# Altium footprint library Display.PcbLib: 1 footprints
Each footprint in its own frame and in the unit in brackets; x right, y up, seen from the top. Pads: shape width x height; smd on the part's side, far side on the other; paste and mask are expansions set on the pad; w line width, h text height; cw(c..) or ccw(c..) is an arc to the next point about the centre after c.
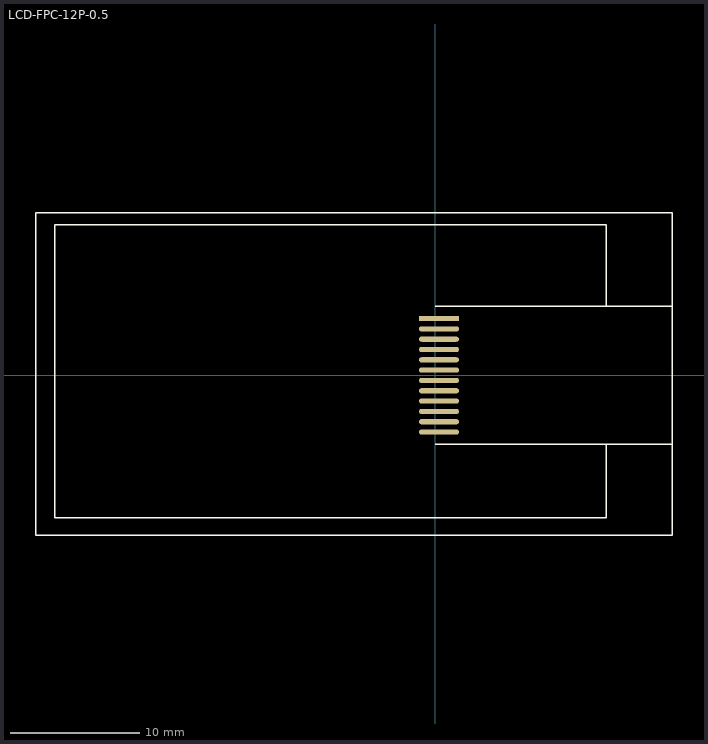
[diagram p0: the footprint, top view; thin cyan lines are the x and y axes]

## LCD-FPC-12P-0.5 [mm]
pads (12):
  rect 3.1x0.4 smd: 1(0.3,4.4)
  oval 3.1x0.4 smd: 2(0.3,3.6) 3(0.3,2.8) 4(0.3,2) 5(0.3,1.2) 6(0.3,0.4) 7(0.3,-0.4) 8(0.3,-1.2) 9(0.3,-2) 10(0.3,-2.8) 11(0.3,-3.6) 12(0.3,-4.4)
Top Overlay:
  lines w0.1: 0,-5.365 18.38,-5.365 ; 0,5.365 18.38,5.365 ; 13.256,-5.405 13.256,-11.047 -29.464,-11.047 -29.464,11.653 13.256,11.653 13.256,5.414 ; -30.95,-12.4 18.38,-12.4 18.38,12.6 -30.95,12.6 -30.95,-12.4
3D body "LCD-FPC-12P-0.5.step": height 2.11, standoff -0.14, extent -30.988,-12.427 18.352,12.573